# Altium integrated library Micron Memory SDRAM.IntLib: 192 symbols (part 20 of 38)
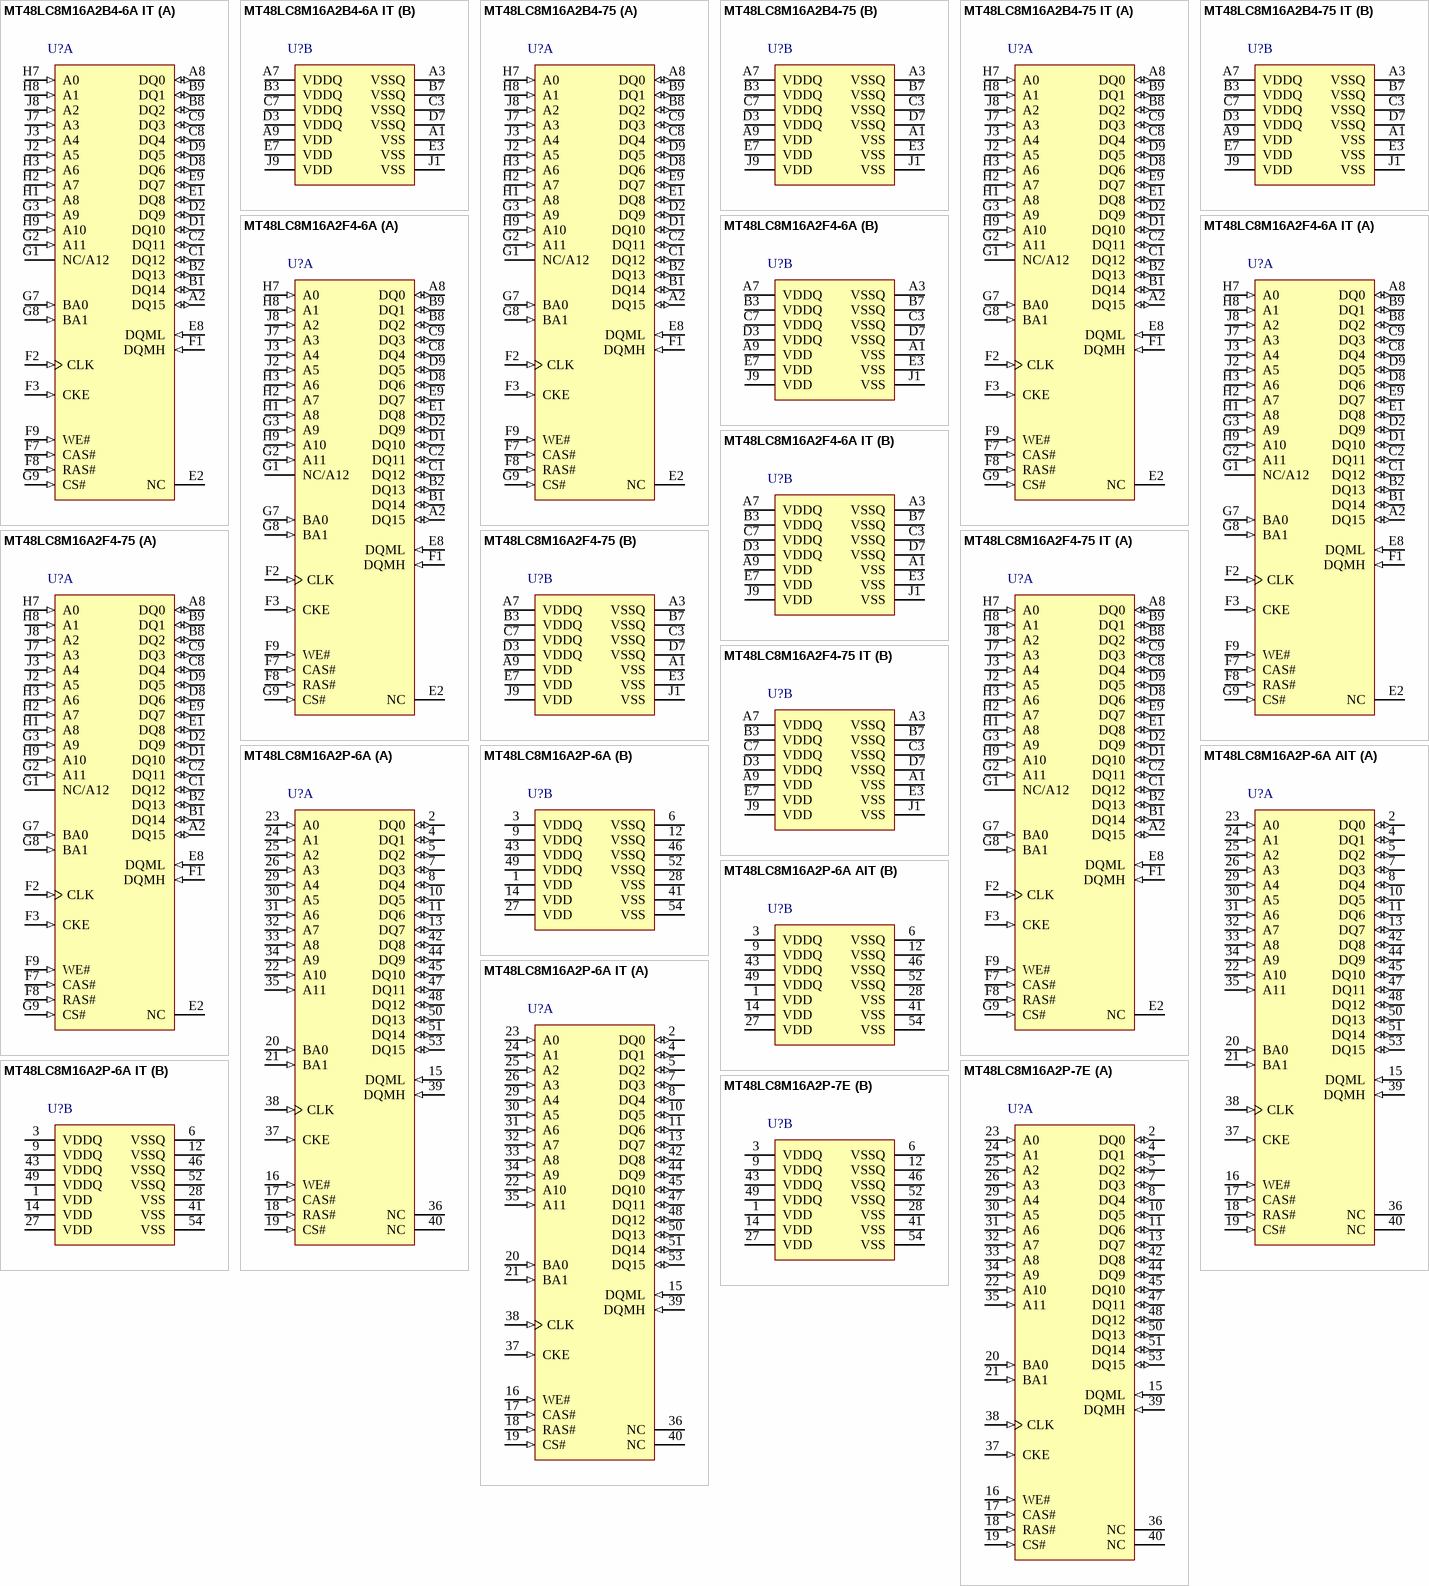
[diagram p39: symbols MT48LC8M16A2B4-6A IT to MT48LC8M16A2P-7E]

## MT48LC8M16A2P-7E
designator U?
128Mb PC133 SDR SDRAM, 8Mb x 16, 7.5ns, 3.3V, 0C to +70 degC, 54-Pin TSOP, Pb-Free; Manufacturer: Micron; PartNumber: MT48LC8M16A2P-7E; CL: CL = 2; Clock Rate: 133 MHz; Op. Temp.: 0C to +70C; DatasheetVersion: Rev.Q; PackageVersion: Rev.Q; PackageReference: MICT-P-54; PackageDescription: 54-Pin Thin Small Outline Package, 10.16 x 22.22 mm, Pitch 0.8 mm; Cycle Time: 7.5ns; Data Rate: PC133; Density: 128Mb; Depth: 8Mb; RoHS: Yes; Voltage: 3.3V; Width: x16; Mounting Technology: Surface Mount; ComponentLink1Description: Manufacturer URL; ComponentLink1URL: http://www.micron.com/; ComponentLink2Description: Datasheet; ComponentLink2URL: http://www.micron.com/~/media/Documents/Products/Data%20Sheet/DRAM/128mb_x4x8x16_sdram.pdf; ComponentLink3Description: Package Specification; ComponentLink3URL: http://www.micron.com/~/media/Documents/Products/Data%20Sheet/DRAM/128mb_x4x8x16_sdram.pdf
footprint MICT-P-54_N (SOP, 54-Leads, Body 22.22x10.16mm, Pitch 0.8mm, IPC Medium Density)
part A pins: 2 DQ0 (io) "Data bus for x16 (pins 4, 7, 10, 13, 42, 45, 48, and 51 are NC for x8; andpins 2, 4, 7, 8, 10, 13, 42, 45, 47, 48, 51, and 53 are NC for x4)", 4 DQ1 (io) "Data bus for x16 (pins 4, 7, 10, 13, 42, 45, 48, and 51 are NC for x8; andpins 2, 4, 7, 8, 10, 13, 42, 45, 47, 48, 51, and 53 are NC for x4)", 5 DQ2 (io) "Data bus for x16 (pins 4, 7, 10, 13, 42, 45, 48, and 51 are NC for x8; andpins 2, 4, 7, 8, 10, 13, 42, 45, 47, 48, 51, and 53 are NC for x4)", 7 DQ3 (io) "Data bus for x16 (pins 4, 7, 10, 13, 42, 45, 48, and 51 are NC for x8; andpins 2, 4, 7, 8, 10, 13, 42, 45, 47, 48, 51, and 53 are NC for x4)", 8 DQ4 (io) "Data bus for x16 (pins 4, 7, 10, 13, 42, 45, 48, and 51 are NC for x8; andpins 2, 4, 7, 8, 10, 13, 42, 45, 47, 48, 51, and 53 are NC for x4)", 10 DQ5 (io) "Data bus for x16 (pins 4, 7, 10, 13, 42, 45, 48, and 51 are NC for x8; andpins 2, 4, 7, 8, 10, 13, 42, 45, 47, 48, 51, and 53 are NC for x4)", 11 DQ6 (io) "Data bus for x16 (pins 4, 7, 10, 13, 42, 45, 48, and 51 are NC for x8; andpins 2, 4, 7, 8, 10, 13, 42, 45, 47, 48, 51, and 53 are NC for x4)", 13 DQ7 (io) "Data bus for x16 (pins 4, 7, 10, 13, 42, 45, 48, and 51 are NC for x8; andpins 2, 4, 7, 8, 10, 13, 42, 45, 47, 48, 51, and 53 are NC for x4)", 15 DQML (in) "DQML corresponds to DQ[7:0] and DQMH corresponds to DQ[15:8]. DQML and DQMH are considered same-state when referenced as DQM.", 16 WE# (in) "define the command being entered.", 17 CAS# (in) "define the command being entered.", 18 RAS# (in) "define the command being entered.", 19 CS# (in) "CS# enables (registered LOW) and disables (registered HIGH) the command decoder. All commands are masked when CS# is registered HIGH, but READ/WRITE bursts alreadyin progress will continue, and DQM operation will retain its (See Datasheet)", 20 BA0 (in) "define to which bank the ACTIVE, READ,WRITE,orPRECHARGE command is being applied.", 21 BA1 (in) "define to which bank the ACTIVE, READ,WRITE,orPRECHARGE command is being applied.", 22 A10 (in) "A[11:0] are sampled during the ACTIVE command (row address A[11:0]) andREAD or WRITE command (column address A[9:0] and A11 for x4; A[9:0] for x8; A[8:0] for x16;with A10 defining auto precharge) to select one location out (See Datasheet)", 23 A0 (in) "A[11:0] are sampled during the ACTIVE command (row address A[11:0]) andREAD or WRITE command (column address A[9:0] and A11 for x4; A[9:0] for x8; A[8:0] for x16;with A10 defining auto precharge) to select one location out (See Datasheet)", 24 A1 (in) "A[11:0] are sampled during the ACTIVE command (row address A[11:0]) andREAD or WRITE command (column address A[9:0] and A11 for x4; A[9:0] for x8; A[8:0] for x16;with A10 defining auto precharge) to select one location out (See Datasheet)", 25 A2 (in) "A[11:0] are sampled during the ACTIVE command (row address A[11:0]) andREAD or WRITE command (column address A[9:0] and A11 for x4; A[9:0] for x8; A[8:0] for x16;with A10 defining auto precharge) to select one location out (See Datasheet)", 26 A3 (in) "A[11:0] are sampled during the ACTIVE command (row address A[11:0]) andREAD or WRITE command (column address A[9:0] and A11 for x4; A[9:0] for x8; A[8:0] for x16;with A10 defining auto precharge) to select one location out (See Datasheet)", 29 A4 (in) "A[11:0] are sampled during the ACTIVE command (row address A[11:0]) andREAD or WRITE command (column address A[9:0] and A11 for x4; A[9:0] for x8; A[8:0] for x16;with A10 defining auto precharge) to select one location out (See Datasheet)", 30 A5 (in) "A[11:0] are sampled during the ACTIVE command (row address A[11:0]) andREAD or WRITE command (column address A[9:0] and A11 for x4; A[9:0] for x8; A[8:0] for x16;with A10 defining auto precharge) to select one location out (See Datasheet)", 31 A6 (in) "A[11:0] are sampled during the ACTIVE command (row address A[11:0]) andREAD or WRITE command (column address A[9:0] and A11 for x4; A[9:0] for x8; A[8:0] for x16;with A10 defining auto precharge) to select one location out (See Datasheet)", 32 A7 (in) "A[11:0] are sampled during the ACTIVE command (row address A[11:0]) andREAD or WRITE command (column address A[9:0] and A11 for x4; A[9:0] for x8; A[8:0] for x16;with A10 defining auto precharge) to select one location out (See Datasheet)", 33 A8 (in) "A[11:0] are sampled during the ACTIVE command (row address A[11:0]) andREAD or WRITE command (column address A[9:0] and A11 for x4; A[9:0] for x8; A[8:0] for x16;with A10 defining auto precharge) to select one location out (See Datasheet)", 34 A9 (in) "A[11:0] are sampled during the ACTIVE command (row address A[11:0]) andREAD or WRITE command (column address A[9:0] and A11 for x4; A[9:0] for x8; A[8:0] for x16;with A10 defining auto precharge) to select one location out (See Datasheet)", 35 A11 (in) "A[11:0] are sampled during the ACTIVE command (row address A[11:0]) andREAD or WRITE command (column address A[9:0] and A11 for x4; A[9:0] for x8; A[8:0] for x16;with A10 defining auto precharge) to select one location out (See Datasheet)", 36 NC "These should be left unconnected. For x4 and x8 parts, G1 is a no connect; it is A12 for 256Mb and 512Mb devices", 37 CKE (in) "CKE activates (HIGH) and deactivates (LOW) the CLK signal. Deactivating theclock provides precharge power-down and SELF REFRESH operation (all banks idle), activepower-down (row active in any bank), or CLOCK SUSPEND (See Datasheet)", 38 CLK (in) "CLK is driven by the system clock. All SDRAM input signals are sampled on the positive edge of CLK. CLK also increments the internal burst counter and controls the output registers.", 39 DQMH (in) "DQML corresponds to DQ[7:0] and DQMH corresponds to DQ[15:8]. DQML and DQMH are considered same-state when referenced as DQM.", 40 NC "These should be left unconnected. For x4 and x8 parts, G1 is a no connect; it is A12 for 256Mb and 512Mb devices.", 42 DQ8 (io) "Data bus for x16 (pins 4, 7, 10, 13, 42, 45, 48, and 51 are NC for x8; andpins 2, 4, 7, 8, 10, 13, 42, 45, 47, 48, 51, and 53 are NC for x4)", 44 DQ9 (io) "Data bus for x16 (pins 4, 7, 10, 13, 42, 45, 48, and 51 are NC for x8; andpins 2, 4, 7, 8, 10, 13, 42, 45, 47, 48, 51, and 53 are NC for x4)", 45 DQ10 (io) "Data bus for x16 (pins 4, 7, 10, 13, 42, 45, 48, and 51 are NC for x8; andpins 2, 4, 7, 8, 10, 13, 42, 45, 47, 48, 51, and 53 are NC for x4)", 47 DQ11 (io) "Data bus for x16 (pins 4, 7, 10, 13, 42, 45, 48, and 51 are NC for x8; andpins 2, 4, 7, 8, 10, 13, 42, 45, 47, 48, 51, and 53 are NC for x4)", 48 DQ12 (io) "Data bus for x16 (pins 4, 7, 10, 13, 42, 45, 48, and 51 are NC for x8; andpins 2, 4, 7, 8, 10, 13, 42, 45, 47, 48, 51, and 53 are NC for x4)", 50 DQ13 (io) "Data bus for x16 (pins 4, 7, 10, 13, 42, 45, 48, and 51 are NC for x8; andpins 2, 4, 7, 8, 10, 13, 42, 45, 47, 48, 51, and 53 are NC for x4)", 51 DQ14 (io) "Data bus for x16 (pins 4, 7, 10, 13, 42, 45, 48, and 51 are NC for x8; andpins 2, 4, 7, 8, 10, 13, 42, 45, 47, 48, 51, and 53 are NC for x4)", 53 DQ15 (io) "Data bus for x16 (pins 4, 7, 10, 13, 42, 45, 48, and 51 are NC for x8; andpins 2, 4, 7, 8, 10, 13, 42, 45, 47, 48, 51, and 53 are NC for x4)"
part B pins: 1 VDD (power) "3.3V +/-0.3V", 3 VDDQ (power) "Isolated DQ power to the die for improved noise immunity", 6 VSSQ (power) "Isolated DQ ground to the die for improved noise immunity", 9 VDDQ (power) "Isolated DQ power to the die for improved noise immunity", 12 VSSQ (power) "Isolated DQ ground to the die for improved noise immunity", 14 VDD (power) "3.3V +/-0.3V", 27 VDD (power) "3.3V +/-0.3V.", 28 VSS (power) "Ground.", 41 VSS (power) "Ground.", 43 VDDQ (power) "Isolated DQ power to the die for improved noise immunity", 46 VSSQ (power) "Isolated DQ ground to the die for improved noise immunity", 49 VDDQ (power) "Isolated DQ power to the die for improved noise immunity", 52 VSSQ (power) "Isolated DQ ground to the die for improved noise immunity", 54 VSS (power) "Ground."

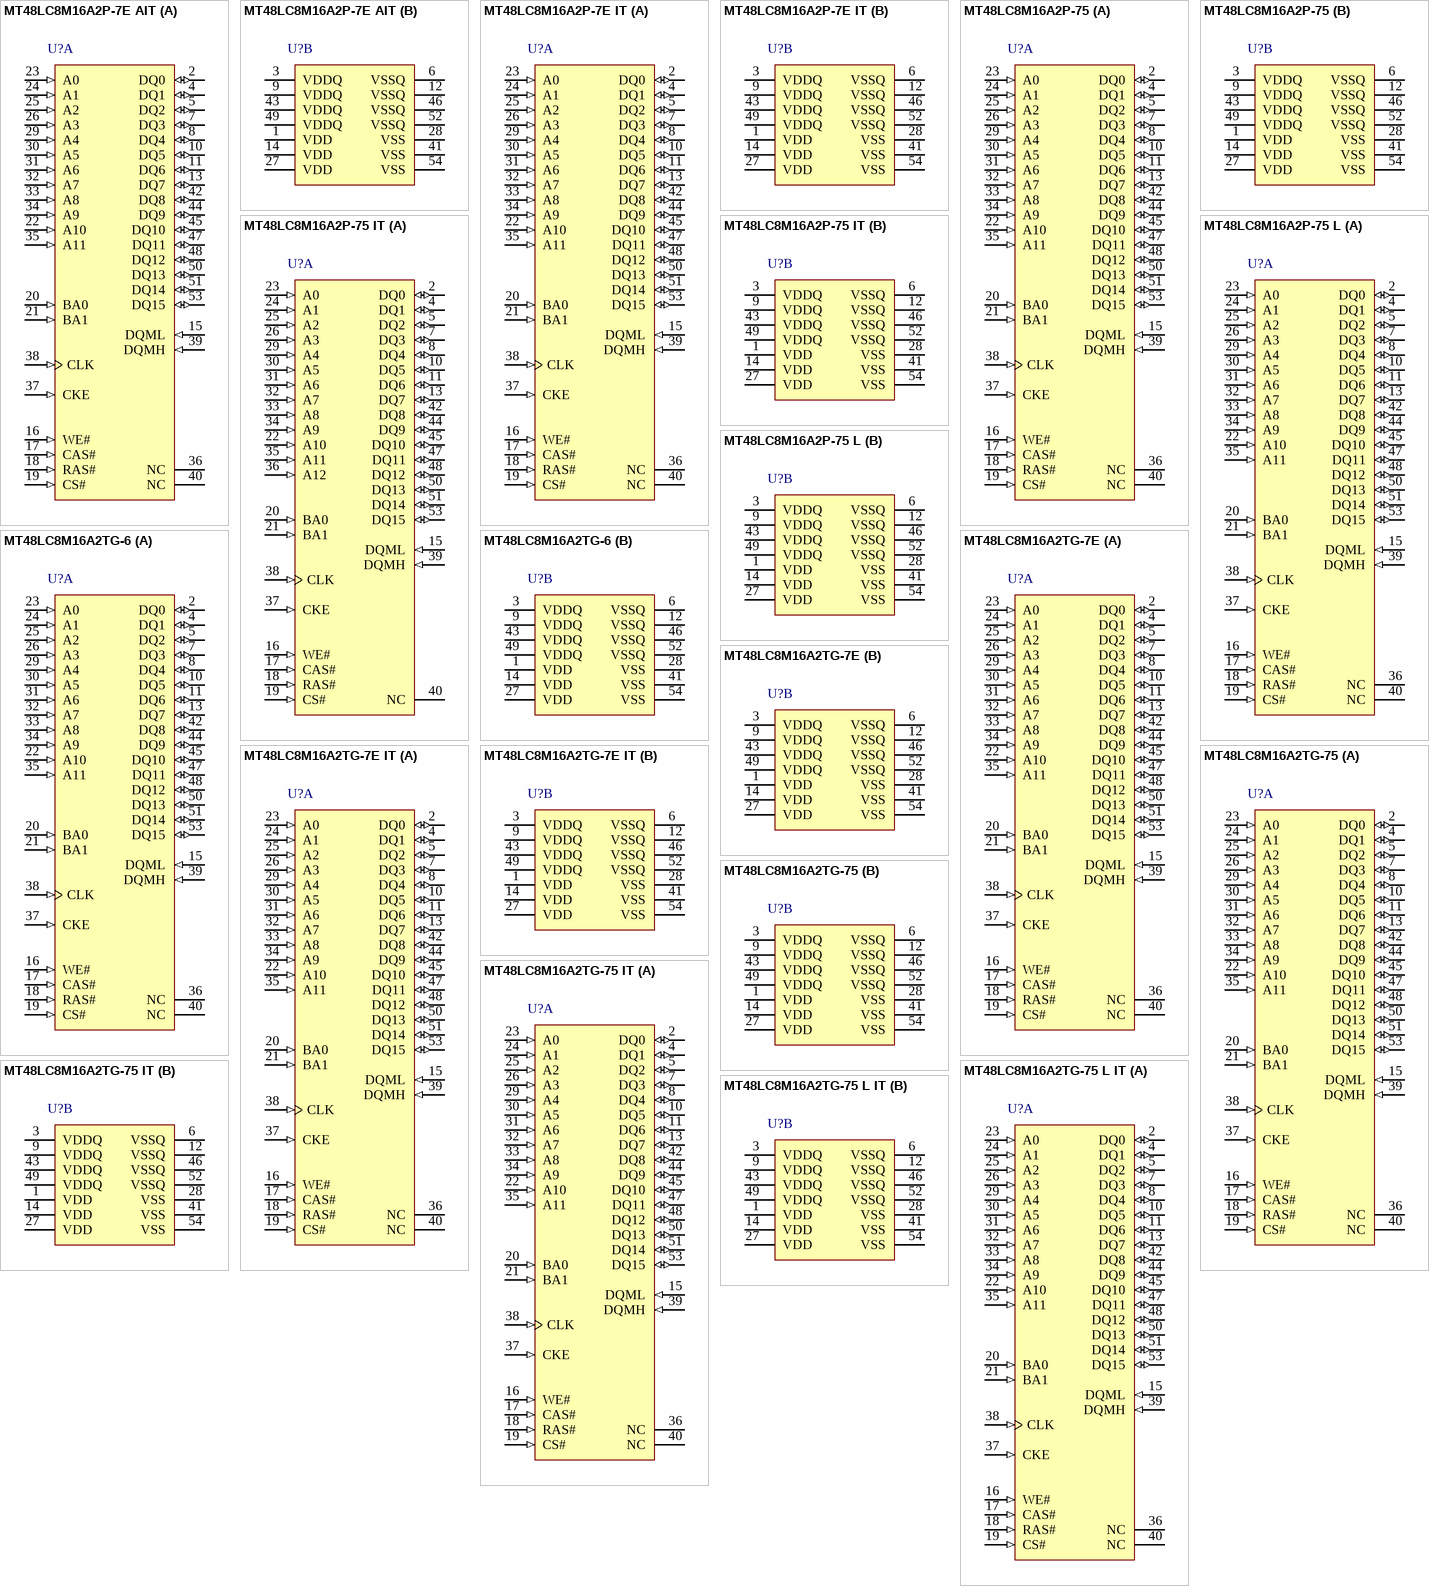
[diagram p11: symbols MT48LC8M16A2P-7E AIT to MT48LC8M16A2TG-75 L IT]

## MT48LC8M16A2P-7E AIT
designator U?
128Mb PC133 SDR SDRAM, 8Mb x 16, 7.5ns, 3.3V, -40 to 85 degC, 54-Pin TSOP, Pb-Free; Manufacturer: Micron; PartNumber: MT48LC8M16A2P-7E AIT; CL: CL = 2; Clock Rate: 143 MHz; Op. Temp.: -40C to +85C; DatasheetVersion: Rev.A; PackageVersion: Rev.Q; PackageReference: MICT-P-54; PackageDescription: 54-Pin Thin Small Outline Package, 10.16 x 22.22 mm, Pitch 0.8 mm; Cycle Time: 7.5ns; Data Rate: PC133; Density: 128Mb; Depth: 8Mb; RoHS: Yes; Voltage: 3.3V; Width: x16; Mounting Technology: Surface Mount; ComponentLink1Description: Manufacturer URL; ComponentLink1URL: http://www.micron.com/; ComponentLink2Description: Datasheet; ComponentLink2URL: http://www.micron.com/~/media/Documents/Products/Data%20Sheet/DRAM/128mb_x4x8x16_ait-aat_sdram.pdf; ComponentLink3Description: Package Specification; ComponentLink3URL: http://www.micron.com/~/media/Documents/Products/Data%20Sheet/DRAM/128mb_x4x8x16_sdram.pdf
footprint MICT-P-54_N (SOP, 54-Leads, Body 22.22x10.16mm, Pitch 0.8mm, IPC Medium Density)
part A pins: 2 DQ0 (io) "Data bus for x16 (pins 4, 7, 10, 13, 42, 45, 48, and 51 are NC for x8; andpins 2, 4, 7, 8, 10, 13, 42, 45, 47, 48, 51, and 53 are NC for x4)", 4 DQ1 (io) "Data bus for x16 (pins 4, 7, 10, 13, 42, 45, 48, and 51 are NC for x8; andpins 2, 4, 7, 8, 10, 13, 42, 45, 47, 48, 51, and 53 are NC for x4)", 5 DQ2 (io) "Data bus for x16 (pins 4, 7, 10, 13, 42, 45, 48, and 51 are NC for x8; andpins 2, 4, 7, 8, 10, 13, 42, 45, 47, 48, 51, and 53 are NC for x4)", 7 DQ3 (io) "Data bus for x16 (pins 4, 7, 10, 13, 42, 45, 48, and 51 are NC for x8; andpins 2, 4, 7, 8, 10, 13, 42, 45, 47, 48, 51, and 53 are NC for x4)", 8 DQ4 (io) "Data bus for x16 (pins 4, 7, 10, 13, 42, 45, 48, and 51 are NC for x8; andpins 2, 4, 7, 8, 10, 13, 42, 45, 47, 48, 51, and 53 are NC for x4)", 10 DQ5 (io) "Data bus for x16 (pins 4, 7, 10, 13, 42, 45, 48, and 51 are NC for x8; andpins 2, 4, 7, 8, 10, 13, 42, 45, 47, 48, 51, and 53 are NC for x4)", 11 DQ6 (io) "Data bus for x16 (pins 4, 7, 10, 13, 42, 45, 48, and 51 are NC for x8; andpins 2, 4, 7, 8, 10, 13, 42, 45, 47, 48, 51, and 53 are NC for x4)", 13 DQ7 (io) "Data bus for x16 (pins 4, 7, 10, 13, 42, 45, 48, and 51 are NC for x8; andpins 2, 4, 7, 8, 10, 13, 42, 45, 47, 48, 51, and 53 are NC for x4)", 15 DQML (in) "DQML corresponds to DQ[7:0] and DQMH corresponds to DQ[15:8]. DQML and DQMH are considered same-state when referenced as DQM.", 16 WE# (in) "define the command being entered.", 17 CAS# (in) "define the command being entered.", 18 RAS# (in) "define the command being entered.", 19 CS# (in) "CS# enables (registered LOW) and disables (registered HIGH) the command decoder. All commands are masked when CS# is registered HIGH, but READ/WRITE bursts alreadyin progress will continue, and DQM operation will retain its (See Datasheet)", 20 BA0 (in) "define to which bank the ACTIVE, READ,WRITE,orPRECHARGE command is being applied.", 21 BA1 (in) "define to which bank the ACTIVE, READ,WRITE,orPRECHARGE command is being applied.", 22 A10 (in) "A[11:0] are sampled during the ACTIVE command (row address A[11:0]) andREAD or WRITE command (column address A[9:0] and A11 for x4; A[9:0] for x8; A[8:0] for x16;with A10 defining auto precharge) to select one location out (See Datasheet)", 23 A0 (in) "A[11:0] are sampled during the ACTIVE command (row address A[11:0]) andREAD or WRITE command (column address A[9:0] and A11 for x4; A[9:0] for x8; A[8:0] for x16;with A10 defining auto precharge) to select one location out (See Datasheet)", 24 A1 (in) "A[11:0] are sampled during the ACTIVE command (row address A[11:0]) andREAD or WRITE command (column address A[9:0] and A11 for x4; A[9:0] for x8; A[8:0] for x16;with A10 defining auto precharge) to select one location out (See Datasheet)", 25 A2 (in) "A[11:0] are sampled during the ACTIVE command (row address A[11:0]) andREAD or WRITE command (column address A[9:0] and A11 for x4; A[9:0] for x8; A[8:0] for x16;with A10 defining auto precharge) to select one location out (See Datasheet)", 26 A3 (in) "A[11:0] are sampled during the ACTIVE command (row address A[11:0]) andREAD or WRITE command (column address A[9:0] and A11 for x4; A[9:0] for x8; A[8:0] for x16;with A10 defining auto precharge) to select one location out (See Datasheet)", 29 A4 (in) "A[11:0] are sampled during the ACTIVE command (row address A[11:0]) andREAD or WRITE command (column address A[9:0] and A11 for x4; A[9:0] for x8; A[8:0] for x16;with A10 defining auto precharge) to select one location out (See Datasheet)", 30 A5 (in) "A[11:0] are sampled during the ACTIVE command (row address A[11:0]) andREAD or WRITE command (column address A[9:0] and A11 for x4; A[9:0] for x8; A[8:0] for x16;with A10 defining auto precharge) to select one location out (See Datasheet)", 31 A6 (in) "A[11:0] are sampled during the ACTIVE command (row address A[11:0]) andREAD or WRITE command (column address A[9:0] and A11 for x4; A[9:0] for x8; A[8:0] for x16;with A10 defining auto precharge) to select one location out (See Datasheet)", 32 A7 (in) "A[11:0] are sampled during the ACTIVE command (row address A[11:0]) andREAD or WRITE command (column address A[9:0] and A11 for x4; A[9:0] for x8; A[8:0] for x16;with A10 defining auto precharge) to select one location out (See Datasheet)", 33 A8 (in) "A[11:0] are sampled during the ACTIVE command (row address A[11:0]) andREAD or WRITE command (column address A[9:0] and A11 for x4; A[9:0] for x8; A[8:0] for x16;with A10 defining auto precharge) to select one location out (See Datasheet)", 34 A9 (in) "A[11:0] are sampled during the ACTIVE command (row address A[11:0]) andREAD or WRITE command (column address A[9:0] and A11 for x4; A[9:0] for x8; A[8:0] for x16;with A10 defining auto precharge) to select one location out (See Datasheet)", 35 A11 (in) "A[11:0] are sampled during the ACTIVE command (row address A[11:0]) andREAD or WRITE command (column address A[9:0] and A11 for x4; A[9:0] for x8; A[8:0] for x16;with A10 defining auto precharge) to select one location out (See Datasheet)", 36 NC "These should be left unconnected. For x4 and x8 parts, G1 is a no connect; it is A12 for 256Mb and 512Mb devices", 37 CKE (in) "CKE activates (HIGH) and deactivates (LOW) the CLK signal. Deactivating theclock provides precharge power-down and SELF REFRESH operation (all banks idle), activepower-down (row active in any bank), or CLOCK SUSPEND (See Datasheet)", 38 CLK (in) "CLK is driven by the system clock. All SDRAM input signals are sampled on the positive edge of CLK. CLK also increments the internal burst counter and controls the output registers.", 39 DQMH (in) "DQML corresponds to DQ[7:0] and DQMH corresponds to DQ[15:8]. DQML and DQMH are considered same-state when referenced as DQM.", 40 NC "These should be left unconnected. For x4 and x8 parts, G1 is a no connect; it is A12 for 256Mb and 512Mb devices.", 42 DQ8 (io) "Data bus for x16 (pins 4, 7, 10, 13, 42, 45, 48, and 51 are NC for x8; andpins 2, 4, 7, 8, 10, 13, 42, 45, 47, 48, 51, and 53 are NC for x4)", 44 DQ9 (io) "Data bus for x16 (pins 4, 7, 10, 13, 42, 45, 48, and 51 are NC for x8; andpins 2, 4, 7, 8, 10, 13, 42, 45, 47, 48, 51, and 53 are NC for x4)", 45 DQ10 (io) "Data bus for x16 (pins 4, 7, 10, 13, 42, 45, 48, and 51 are NC for x8; andpins 2, 4, 7, 8, 10, 13, 42, 45, 47, 48, 51, and 53 are NC for x4)", 47 DQ11 (io) "Data bus for x16 (pins 4, 7, 10, 13, 42, 45, 48, and 51 are NC for x8; andpins 2, 4, 7, 8, 10, 13, 42, 45, 47, 48, 51, and 53 are NC for x4)", 48 DQ12 (io) "Data bus for x16 (pins 4, 7, 10, 13, 42, 45, 48, and 51 are NC for x8; andpins 2, 4, 7, 8, 10, 13, 42, 45, 47, 48, 51, and 53 are NC for x4)", 50 DQ13 (io) "Data bus for x16 (pins 4, 7, 10, 13, 42, 45, 48, and 51 are NC for x8; andpins 2, 4, 7, 8, 10, 13, 42, 45, 47, 48, 51, and 53 are NC for x4)", 51 DQ14 (io) "Data bus for x16 (pins 4, 7, 10, 13, 42, 45, 48, and 51 are NC for x8; andpins 2, 4, 7, 8, 10, 13, 42, 45, 47, 48, 51, and 53 are NC for x4)", 53 DQ15 (io) "Data bus for x16 (pins 4, 7, 10, 13, 42, 45, 48, and 51 are NC for x8; andpins 2, 4, 7, 8, 10, 13, 42, 45, 47, 48, 51, and 53 are NC for x4)"
part B pins: 1 VDD (power) "3.3V +/-0.3V", 3 VDDQ (power) "Isolated DQ power to the die for improved noise immunity", 6 VSSQ (power) "Isolated DQ ground to the die for improved noise immunity", 9 VDDQ (power) "Isolated DQ power to the die for improved noise immunity", 12 VSSQ (power) "Isolated DQ ground to the die for improved noise immunity", 14 VDD (power) "3.3V +/-0.3V", 27 VDD (power) "3.3V +/-0.3V.", 28 VSS (power) "Ground.", 41 VSS (power) "Ground.", 43 VDDQ (power) "Isolated DQ power to the die for improved noise immunity", 46 VSSQ (power) "Isolated DQ ground to the die for improved noise immunity", 49 VDDQ (power) "Isolated DQ power to the die for improved noise immunity", 52 VSSQ (power) "Isolated DQ ground to the die for improved noise immunity", 54 VSS (power) "Ground."

## MT48LC8M16A2P-7E IT
designator U?
128Mb PC133 SDR SDRAM, 8Mb x 16, 7.5ns, 3.3V, -40 to 85 degC, 54-Pin TSOP, Pb-Free; Manufacturer: Micron; PartNumber: MT48LC8M16A2P-7E IT; CL: CL = 2; Clock Rate: 133 MHz; Op. Temp.: -40C to +85C; DatasheetVersion: Rev.Q; PackageVersion: Rev.Q; PackageReference: MICT-P-54; PackageDescription: 54-Pin Thin Small Outline Package, 10.16 x 22.22 mm, Pitch 0.8 mm; Cycle Time: 7.5ns; Data Rate: PC133; Density: 128Mb; Depth: 8Mb; RoHS: Yes; Voltage: 3.3V; Width: x16; Mounting Technology: Surface Mount; ComponentLink1Description: Manufacturer URL; ComponentLink1URL: http://www.micron.com/; ComponentLink2Description: Datasheet; ComponentLink2URL: http://www.micron.com/~/media/Documents/Products/Data%20Sheet/DRAM/128mb_x4x8x16_sdram.pdf; ComponentLink3Description: Package Specification; ComponentLink3URL: http://www.micron.com/~/media/Documents/Products/Data%20Sheet/DRAM/128mb_x4x8x16_sdram.pdf
footprint MICT-P-54_N (SOP, 54-Leads, Body 22.22x10.16mm, Pitch 0.8mm, IPC Medium Density)
part A pins: 2 DQ0 (io) "Data bus for x16 (pins 4, 7, 10, 13, 42, 45, 48, and 51 are NC for x8; andpins 2, 4, 7, 8, 10, 13, 42, 45, 47, 48, 51, and 53 are NC for x4)", 4 DQ1 (io) "Data bus for x16 (pins 4, 7, 10, 13, 42, 45, 48, and 51 are NC for x8; andpins 2, 4, 7, 8, 10, 13, 42, 45, 47, 48, 51, and 53 are NC for x4)", 5 DQ2 (io) "Data bus for x16 (pins 4, 7, 10, 13, 42, 45, 48, and 51 are NC for x8; andpins 2, 4, 7, 8, 10, 13, 42, 45, 47, 48, 51, and 53 are NC for x4)", 7 DQ3 (io) "Data bus for x16 (pins 4, 7, 10, 13, 42, 45, 48, and 51 are NC for x8; andpins 2, 4, 7, 8, 10, 13, 42, 45, 47, 48, 51, and 53 are NC for x4)", 8 DQ4 (io) "Data bus for x16 (pins 4, 7, 10, 13, 42, 45, 48, and 51 are NC for x8; andpins 2, 4, 7, 8, 10, 13, 42, 45, 47, 48, 51, and 53 are NC for x4)", 10 DQ5 (io) "Data bus for x16 (pins 4, 7, 10, 13, 42, 45, 48, and 51 are NC for x8; andpins 2, 4, 7, 8, 10, 13, 42, 45, 47, 48, 51, and 53 are NC for x4)", 11 DQ6 (io) "Data bus for x16 (pins 4, 7, 10, 13, 42, 45, 48, and 51 are NC for x8; andpins 2, 4, 7, 8, 10, 13, 42, 45, 47, 48, 51, and 53 are NC for x4)", 13 DQ7 (io) "Data bus for x16 (pins 4, 7, 10, 13, 42, 45, 48, and 51 are NC for x8; andpins 2, 4, 7, 8, 10, 13, 42, 45, 47, 48, 51, and 53 are NC for x4)", 15 DQML (in) "DQML corresponds to DQ[7:0] and DQMH corresponds to DQ[15:8]. DQML and DQMH are considered same-state when referenced as DQM.", 16 WE# (in) "define the command being entered.", 17 CAS# (in) "define the command being entered.", 18 RAS# (in) "define the command being entered.", 19 CS# (in) "CS# enables (registered LOW) and disables (registered HIGH) the command decoder. All commands are masked when CS# is registered HIGH, but READ/WRITE bursts alreadyin progress will continue, and DQM operation will retain its (See Datasheet)", 20 BA0 (in) "define to which bank the ACTIVE, READ,WRITE,orPRECHARGE command is being applied.", 21 BA1 (in) "define to which bank the ACTIVE, READ,WRITE,orPRECHARGE command is being applied.", 22 A10 (in) "A[11:0] are sampled during the ACTIVE command (row address A[11:0]) andREAD or WRITE command (column address A[9:0] and A11 for x4; A[9:0] for x8; A[8:0] for x16;with A10 defining auto precharge) to select one location out (See Datasheet)", 23 A0 (in) "A[11:0] are sampled during the ACTIVE command (row address A[11:0]) andREAD or WRITE command (column address A[9:0] and A11 for x4; A[9:0] for x8; A[8:0] for x16;with A10 defining auto precharge) to select one location out (See Datasheet)", 24 A1 (in) "A[11:0] are sampled during the ACTIVE command (row address A[11:0]) andREAD or WRITE command (column address A[9:0] and A11 for x4; A[9:0] for x8; A[8:0] for x16;with A10 defining auto precharge) to select one location out (See Datasheet)", 25 A2 (in) "A[11:0] are sampled during the ACTIVE command (row address A[11:0]) andREAD or WRITE command (column address A[9:0] and A11 for x4; A[9:0] for x8; A[8:0] for x16;with A10 defining auto precharge) to select one location out (See Datasheet)", 26 A3 (in) "A[11:0] are sampled during the ACTIVE command (row address A[11:0]) andREAD or WRITE command (column address A[9:0] and A11 for x4; A[9:0] for x8; A[8:0] for x16;with A10 defining auto precharge) to select one location out (See Datasheet)", 29 A4 (in) "A[11:0] are sampled during the ACTIVE command (row address A[11:0]) andREAD or WRITE command (column address A[9:0] and A11 for x4; A[9:0] for x8; A[8:0] for x16;with A10 defining auto precharge) to select one location out (See Datasheet)", 30 A5 (in) "A[11:0] are sampled during the ACTIVE command (row address A[11:0]) andREAD or WRITE command (column address A[9:0] and A11 for x4; A[9:0] for x8; A[8:0] for x16;with A10 defining auto precharge) to select one location out (See Datasheet)", 31 A6 (in) "A[11:0] are sampled during the ACTIVE command (row address A[11:0]) andREAD or WRITE command (column address A[9:0] and A11 for x4; A[9:0] for x8; A[8:0] for x16;with A10 defining auto precharge) to select one location out (See Datasheet)", 32 A7 (in) "A[11:0] are sampled during the ACTIVE command (row address A[11:0]) andREAD or WRITE command (column address A[9:0] and A11 for x4; A[9:0] for x8; A[8:0] for x16;with A10 defining auto precharge) to select one location out (See Datasheet)", 33 A8 (in) "A[11:0] are sampled during the ACTIVE command (row address A[11:0]) andREAD or WRITE command (column address A[9:0] and A11 for x4; A[9:0] for x8; A[8:0] for x16;with A10 defining auto precharge) to select one location out (See Datasheet)", 34 A9 (in) "A[11:0] are sampled during the ACTIVE command (row address A[11:0]) andREAD or WRITE command (column address A[9:0] and A11 for x4; A[9:0] for x8; A[8:0] for x16;with A10 defining auto precharge) to select one location out (See Datasheet)", 35 A11 (in) "A[11:0] are sampled during the ACTIVE command (row address A[11:0]) andREAD or WRITE command (column address A[9:0] and A11 for x4; A[9:0] for x8; A[8:0] for x16;with A10 defining auto precharge) to select one location out (See Datasheet)", 36 NC "These should be left unconnected. For x4 and x8 parts, G1 is a no connect; it is A12 for 256Mb and 512Mb devices", 37 CKE (in) "CKE activates (HIGH) and deactivates (LOW) the CLK signal. Deactivating theclock provides precharge power-down and SELF REFRESH operation (all banks idle), activepower-down (row active in any bank), or CLOCK SUSPEND (See Datasheet)", 38 CLK (in) "CLK is driven by the system clock. All SDRAM input signals are sampled on the positive edge of CLK. CLK also increments the internal burst counter and controls the output registers.", 39 DQMH (in) "DQML corresponds to DQ[7:0] and DQMH corresponds to DQ[15:8]. DQML and DQMH are considered same-state when referenced as DQM.", 40 NC "These should be left unconnected. For x4 and x8 parts, G1 is a no connect; it is A12 for 256Mb and 512Mb devices.", 42 DQ8 (io) "Data bus for x16 (pins 4, 7, 10, 13, 42, 45, 48, and 51 are NC for x8; andpins 2, 4, 7, 8, 10, 13, 42, 45, 47, 48, 51, and 53 are NC for x4)", 44 DQ9 (io) "Data bus for x16 (pins 4, 7, 10, 13, 42, 45, 48, and 51 are NC for x8; andpins 2, 4, 7, 8, 10, 13, 42, 45, 47, 48, 51, and 53 are NC for x4)", 45 DQ10 (io) "Data bus for x16 (pins 4, 7, 10, 13, 42, 45, 48, and 51 are NC for x8; andpins 2, 4, 7, 8, 10, 13, 42, 45, 47, 48, 51, and 53 are NC for x4)", 47 DQ11 (io) "Data bus for x16 (pins 4, 7, 10, 13, 42, 45, 48, and 51 are NC for x8; andpins 2, 4, 7, 8, 10, 13, 42, 45, 47, 48, 51, and 53 are NC for x4)", 48 DQ12 (io) "Data bus for x16 (pins 4, 7, 10, 13, 42, 45, 48, and 51 are NC for x8; andpins 2, 4, 7, 8, 10, 13, 42, 45, 47, 48, 51, and 53 are NC for x4)", 50 DQ13 (io) "Data bus for x16 (pins 4, 7, 10, 13, 42, 45, 48, and 51 are NC for x8; andpins 2, 4, 7, 8, 10, 13, 42, 45, 47, 48, 51, and 53 are NC for x4)", 51 DQ14 (io) "Data bus for x16 (pins 4, 7, 10, 13, 42, 45, 48, and 51 are NC for x8; andpins 2, 4, 7, 8, 10, 13, 42, 45, 47, 48, 51, and 53 are NC for x4)", 53 DQ15 (io) "Data bus for x16 (pins 4, 7, 10, 13, 42, 45, 48, and 51 are NC for x8; andpins 2, 4, 7, 8, 10, 13, 42, 45, 47, 48, 51, and 53 are NC for x4)"
part B pins: 1 VDD (power) "3.3V +/-0.3V", 3 VDDQ (power) "Isolated DQ power to the die for improved noise immunity", 6 VSSQ (power) "Isolated DQ ground to the die for improved noise immunity", 9 VDDQ (power) "Isolated DQ power to the die for improved noise immunity", 12 VSSQ (power) "Isolated DQ ground to the die for improved noise immunity", 14 VDD (power) "3.3V +/-0.3V", 27 VDD (power) "3.3V +/-0.3V.", 28 VSS (power) "Ground.", 41 VSS (power) "Ground.", 43 VDDQ (power) "Isolated DQ power to the die for improved noise immunity", 46 VSSQ (power) "Isolated DQ ground to the die for improved noise immunity", 49 VDDQ (power) "Isolated DQ power to the die for improved noise immunity", 52 VSSQ (power) "Isolated DQ ground to the die for improved noise immunity", 54 VSS (power) "Ground."

## MT48LC8M16A2P-75
designator U?
128Mb PC133 SDR SDRAM, 8Mb x 16, 7.5ns, 3.3V, 0 to 70 degC, 54-Pin TSOP, Pb-Free; Manufacturer: Micron; PartNumber: MT48LC8M16A2P-75; CL: CL = 3; Clock Rate: 133 MHz; Op. Temp.: 0C to +70C; DatasheetVersion: Rev.Q; PackageVersion: Rev.Q; PackageReference: MICT-P-54; PackageDescription: 54-Pin Thin Small Outline Package, 10.16 x 22.22 mm, Pitch 0.8 mm; Cycle Time: 7.5ns; Data Rate: PC133; Density: 128Mb; Depth: 8Mb; RoHS: Yes; Voltage: 3.3V; Width: x16; Mounting Technology: Surface Mount; ComponentLink1Description: Manufacturer URL; ComponentLink1URL: http://www.micron.com/; ComponentLink2Description: Datasheet; ComponentLink2URL: http://www.micron.com/~/media/Documents/Products/Data%20Sheet/DRAM/128mb_x4x8x16_sdram.pdf; ComponentLink3Description: Package Specification; ComponentLink3URL: http://www.micron.com/~/media/Documents/Products/Data%20Sheet/DRAM/128mb_x4x8x16_sdram.pdf
footprint MICT-P-54_N (SOP, 54-Leads, Body 22.22x10.16mm, Pitch 0.8mm, IPC Medium Density)
part A pins: 2 DQ0 (io) "Data bus for x16 (pins 4, 7, 10, 13, 42, 45, 48, and 51 are NC for x8; andpins 2, 4, 7, 8, 10, 13, 42, 45, 47, 48, 51, and 53 are NC for x4)", 4 DQ1 (io) "Data bus for x16 (pins 4, 7, 10, 13, 42, 45, 48, and 51 are NC for x8; andpins 2, 4, 7, 8, 10, 13, 42, 45, 47, 48, 51, and 53 are NC for x4)", 5 DQ2 (io) "Data bus for x16 (pins 4, 7, 10, 13, 42, 45, 48, and 51 are NC for x8; andpins 2, 4, 7, 8, 10, 13, 42, 45, 47, 48, 51, and 53 are NC for x4)", 7 DQ3 (io) "Data bus for x16 (pins 4, 7, 10, 13, 42, 45, 48, and 51 are NC for x8; andpins 2, 4, 7, 8, 10, 13, 42, 45, 47, 48, 51, and 53 are NC for x4)", 8 DQ4 (io) "Data bus for x16 (pins 4, 7, 10, 13, 42, 45, 48, and 51 are NC for x8; andpins 2, 4, 7, 8, 10, 13, 42, 45, 47, 48, 51, and 53 are NC for x4)", 10 DQ5 (io) "Data bus for x16 (pins 4, 7, 10, 13, 42, 45, 48, and 51 are NC for x8; andpins 2, 4, 7, 8, 10, 13, 42, 45, 47, 48, 51, and 53 are NC for x4)", 11 DQ6 (io) "Data bus for x16 (pins 4, 7, 10, 13, 42, 45, 48, and 51 are NC for x8; andpins 2, 4, 7, 8, 10, 13, 42, 45, 47, 48, 51, and 53 are NC for x4)", 13 DQ7 (io) "Data bus for x16 (pins 4, 7, 10, 13, 42, 45, 48, and 51 are NC for x8; andpins 2, 4, 7, 8, 10, 13, 42, 45, 47, 48, 51, and 53 are NC for x4)", 15 DQML (in) "DQML corresponds to DQ[7:0] and DQMH corresponds to DQ[15:8]. DQML and DQMH are considered same-state when referenced as DQM.", 16 WE# (in) "define the command being entered.", 17 CAS# (in) "define the command being entered.", 18 RAS# (in) "define the command being entered.", 19 CS# (in) "CS# enables (registered LOW) and disables (registered HIGH) the command decoder. All commands are masked when CS# is registered HIGH, but READ/WRITE bursts alreadyin progress will continue, and DQM operation will retain its (See Datasheet)", 20 BA0 (in) "define to which bank the ACTIVE, READ,WRITE,orPRECHARGE command is being applied.", 21 BA1 (in) "define to which bank the ACTIVE, READ,WRITE,orPRECHARGE command is being applied.", 22 A10 (in) "A[11:0] are sampled during the ACTIVE command (row address A[11:0]) andREAD or WRITE command (column address A[9:0] and A11 for x4; A[9:0] for x8; A[8:0] for x16;with A10 defining auto precharge) to select one location out (See Datasheet)", 23 A0 (in) "A[11:0] are sampled during the ACTIVE command (row address A[11:0]) andREAD or WRITE command (column address A[9:0] and A11 for x4; A[9:0] for x8; A[8:0] for x16;with A10 defining auto precharge) to select one location out (See Datasheet)", 24 A1 (in) "A[11:0] are sampled during the ACTIVE command (row address A[11:0]) andREAD or WRITE command (column address A[9:0] and A11 for x4; A[9:0] for x8; A[8:0] for x16;with A10 defining auto precharge) to select one location out (See Datasheet)", 25 A2 (in) "A[11:0] are sampled during the ACTIVE command (row address A[11:0]) andREAD or WRITE command (column address A[9:0] and A11 for x4; A[9:0] for x8; A[8:0] for x16;with A10 defining auto precharge) to select one location out (See Datasheet)", 26 A3 (in) "A[11:0] are sampled during the ACTIVE command (row address A[11:0]) andREAD or WRITE command (column address A[9:0] and A11 for x4; A[9:0] for x8; A[8:0] for x16;with A10 defining auto precharge) to select one location out (See Datasheet)", 29 A4 (in) "A[11:0] are sampled during the ACTIVE command (row address A[11:0]) andREAD or WRITE command (column address A[9:0] and A11 for x4; A[9:0] for x8; A[8:0] for x16;with A10 defining auto precharge) to select one location out (See Datasheet)", 30 A5 (in) "A[11:0] are sampled during the ACTIVE command (row address A[11:0]) andREAD or WRITE command (column address A[9:0] and A11 for x4; A[9:0] for x8; A[8:0] for x16;with A10 defining auto precharge) to select one location out (See Datasheet)", 31 A6 (in) "A[11:0] are sampled during the ACTIVE command (row address A[11:0]) andREAD or WRITE command (column address A[9:0] and A11 for x4; A[9:0] for x8; A[8:0] for x16;with A10 defining auto precharge) to select one location out (See Datasheet)", 32 A7 (in) "A[11:0] are sampled during the ACTIVE command (row address A[11:0]) andREAD or WRITE command (column address A[9:0] and A11 for x4; A[9:0] for x8; A[8:0] for x16;with A10 defining auto precharge) to select one location out (See Datasheet)", 33 A8 (in) "A[11:0] are sampled during the ACTIVE command (row address A[11:0]) andREAD or WRITE command (column address A[9:0] and A11 for x4; A[9:0] for x8; A[8:0] for x16;with A10 defining auto precharge) to select one location out (See Datasheet)", 34 A9 (in) "A[11:0] are sampled during the ACTIVE command (row address A[11:0]) andREAD or WRITE command (column address A[9:0] and A11 for x4; A[9:0] for x8; A[8:0] for x16;with A10 defining auto precharge) to select one location out (See Datasheet)", 35 A11 (in) "A[11:0] are sampled during the ACTIVE command (row address A[11:0]) andREAD or WRITE command (column address A[9:0] and A11 for x4; A[9:0] for x8; A[8:0] for x16;with A10 defining auto precharge) to select one location out (See Datasheet)", 36 NC "These should be left unconnected. For x4 and x8 parts, G1 is a no connect; it is A12 for 256Mb and 512Mb devices", 37 CKE (in) "CKE activates (HIGH) and deactivates (LOW) the CLK signal. Deactivating theclock provides precharge power-down and SELF REFRESH operation (all banks idle), activepower-down (row active in any bank), or CLOCK SUSPEND (See Datasheet)", 38 CLK (in) "CLK is driven by the system clock. All SDRAM input signals are sampled on the positive edge of CLK. CLK also increments the internal burst counter and controls the output registers.", 39 DQMH (in) "DQML corresponds to DQ[7:0] and DQMH corresponds to DQ[15:8]. DQML and DQMH are considered same-state when referenced as DQM.", 40 NC "These should be left unconnected. For x4 and x8 parts, G1 is a no connect; it is A12 for 256Mb and 512Mb devices.", 42 DQ8 (io) "Data bus for x16 (pins 4, 7, 10, 13, 42, 45, 48, and 51 are NC for x8; andpins 2, 4, 7, 8, 10, 13, 42, 45, 47, 48, 51, and 53 are NC for x4)", 44 DQ9 (io) "Data bus for x16 (pins 4, 7, 10, 13, 42, 45, 48, and 51 are NC for x8; andpins 2, 4, 7, 8, 10, 13, 42, 45, 47, 48, 51, and 53 are NC for x4)", 45 DQ10 (io) "Data bus for x16 (pins 4, 7, 10, 13, 42, 45, 48, and 51 are NC for x8; andpins 2, 4, 7, 8, 10, 13, 42, 45, 47, 48, 51, and 53 are NC for x4)", 47 DQ11 (io) "Data bus for x16 (pins 4, 7, 10, 13, 42, 45, 48, and 51 are NC for x8; andpins 2, 4, 7, 8, 10, 13, 42, 45, 47, 48, 51, and 53 are NC for x4)", 48 DQ12 (io) "Data bus for x16 (pins 4, 7, 10, 13, 42, 45, 48, and 51 are NC for x8; andpins 2, 4, 7, 8, 10, 13, 42, 45, 47, 48, 51, and 53 are NC for x4)", 50 DQ13 (io) "Data bus for x16 (pins 4, 7, 10, 13, 42, 45, 48, and 51 are NC for x8; andpins 2, 4, 7, 8, 10, 13, 42, 45, 47, 48, 51, and 53 are NC for x4)", 51 DQ14 (io) "Data bus for x16 (pins 4, 7, 10, 13, 42, 45, 48, and 51 are NC for x8; andpins 2, 4, 7, 8, 10, 13, 42, 45, 47, 48, 51, and 53 are NC for x4)", 53 DQ15 (io) "Data bus for x16 (pins 4, 7, 10, 13, 42, 45, 48, and 51 are NC for x8; andpins 2, 4, 7, 8, 10, 13, 42, 45, 47, 48, 51, and 53 are NC for x4)"
part B pins: 1 VDD (power) "3.3V +/-0.3V", 3 VDDQ (power) "Isolated DQ power to the die for improved noise immunity", 6 VSSQ (power) "Isolated DQ ground to the die for improved noise immunity", 9 VDDQ (power) "Isolated DQ power to the die for improved noise immunity", 12 VSSQ (power) "Isolated DQ ground to the die for improved noise immunity", 14 VDD (power) "3.3V +/-0.3V", 27 VDD (power) "3.3V +/-0.3V.", 28 VSS (power) "Ground.", 41 VSS (power) "Ground.", 43 VDDQ (power) "Isolated DQ power to the die for improved noise immunity", 46 VSSQ (power) "Isolated DQ ground to the die for improved noise immunity", 49 VDDQ (power) "Isolated DQ power to the die for improved noise immunity", 52 VSSQ (power) "Isolated DQ ground to the die for improved noise immunity", 54 VSS (power) "Ground."

## MT48LC8M16A2P-75 IT
designator U?
128Mb PC133 SDR SDRAM, 8Mb x 16, 7.5ns, 3.3V, -40 to 85 degC, 54-Pin TSOP, Pb-Free; Manufacturer: Micron; PartNumber: MT48LC8M16A2P-75 IT; CL: CL = 3; Clock Rate: 133 MHz; Op. Temp.: -40C to +85C; DatasheetVersion: Rev.Q; PackageVersion: Rev.Q; PackageReference: MICT-P-54; PackageDescription: 54-Pin Thin Small Outline Package, 10.16 x 22.22 mm, Pitch 0.8 mm; Cycle Time: 7.5ns; Data Rate: PC133; Density: 128Mb; Depth: 8Mb; Package: TSOP; Pin Count: 54-pin; RoHS: Yes; Voltage: 3.3V; Width: x16; Mounting Technology: Surface Mount; ComponentLink1Description: Manufacturer URL; ComponentLink1URL: http://www.micron.com/; ComponentLink2Description: Datasheet; ComponentLink2URL: http://www.micron.com/~/media/Documents/Products/Data%20Sheet/DRAM/128mb_x4x8x16_sdram.pdf; ComponentLink3Description: Package Specification; ComponentLink3URL: http://www.micron.com/~/media/Documents/Products/Data%20Sheet/DRAM/128mb_x4x8x16_sdram.pdf
footprint MICT-P-54_N (SOP, 54-Leads, Body 22.22x10.16mm, Pitch 0.8mm, IPC Medium Density)
part A pins: 2 DQ0 (io) "Data input/output: Data bus for x16 (pins 4, 7, 10, 13, 15, 42, 45, 48, and 51 are NC for x8; and pins 2, 4, 7, 8, 10, 13, 15, 42, 45, 47, 48, 51, and 53 are NC for x4).", 4 DQ1 (io) "Data input/output: Data bus for x16 (pins 4, 7, 10, 13, 15, 42, 45, 48, and 51 are NC for x8; and pins 2, 4, 7, 8, 10, 13, 15, 42, 45, 47, 48, 51, and 53 are NC for x4).", 5 DQ2 (io) "Data input/output: Data bus for x16 (pins 4, 7, 10, 13, 15, 42, 45, 48, and 51 are NC for x8; and pins 2, 4, 7, 8, 10, 13, 15, 42, 45, 47, 48, 51, and 53 are NC for x4).", 7 DQ3 (io) "Data input/output: Data bus for x16 (pins 4, 7, 10, 13, 15, 42, 45, 48, and 51 are NC for x8; and pins 2, 4, 7, 8, 10, 13, 15, 42, 45, 47, 48, 51, and 53 are NC for x4).", 8 DQ4 (io) "Data input/output: Data bus for x16 (pins 4, 7, 10, 13, 15, 42, 45, 48, and 51 are NC for x8; and pins 2, 4, 7, 8, 10, 13, 15, 42, 45, 47, 48, 51, and 53 are NC for x4).", 10 DQ5 (io) "Data input/output: Data bus for x16 (pins 4, 7, 10, 13, 15, 42, 45, 48, and 51 are NC for x8; and pins 2, 4, 7, 8, 10, 13, 15, 42, 45, 47, 48, 51, and 53 are NC for x4).", 11 DQ6 (io) "Data input/output: Data bus for x16 (pins 4, 7, 10, 13, 15, 42, 45, 48, and 51 are NC for x8; and pins 2, 4, 7, 8, 10, 13, 15, 42, 45, 47, 48, 51, and 53 are NC for x4).", 13 DQ7 (io) "Data input/output: Data bus for x16 (pins 4, 7, 10, 13, 15, 42, 45, 48, and 51 are NC for x8; and pins 2, 4, 7, 8, 10, 13, 15, 42, 45, 47, 48, 51, and 53 are NC for x4).", 15 DQML (in) "Input/output mask: DQM is an input mask signal for write accesses and an output enable signal for read accesses. Input data is masked when DQM is sampled HIGH during a WRITE cycle.The output buffers are placed in a High-Z (See Datasheet)", 16 WE# (in) "Command inputs: RAS#, CAS#, and WE# (along with CS#) define the command being entered.", 17 CAS# (in) "Command inputs: RAS#, CAS#, and WE# (along with CS#) define the command being entered.", 18 RAS# (in) "Command inputs: RAS#, CAS#, and WE# (along with CS#) define the command being entered.", 19 CS# (in) "Chip select: CS# enables (registered LOW) and disables (registered HIGH) the command decoder. All commands are masked when CS# is registered HIGH, but READ/WRITE bursts already inprogress will continue, and DQM operation (See Datasheet)", 20 BA0 (in) "Bank address input(s): BA[1:0] define to which bank the ACTIVE, READ, WRITE, or PRECHARGEcommand is being applied.", 21 BA1 (in) "Bank address input(s): BA[1:0] define to which bank the ACTIVE, READ, WRITE, or PRECHARGEcommand is being applied.", 22 A10 (in) "Address inputs: A[12:0] are sampled during the ACTIVE command (row address A[12:0]) and READ or WRITE command (column address A[9:0], A11, and A12 for x4; A[9:0] and A11 for x8; A[9:0] for x16; with A10 defining auto (See Datasheet)", 23 A0 (in) "Address inputs: A[12:0] are sampled during the ACTIVE command (row address A[12:0]) and READ or WRITE command (column address A[9:0], A11, and A12 for x4; A[9:0] and A11 for x8; A[9:0] for x16; with A10 defining auto (See Datasheet)", 24 A1 (in) "Address inputs: A[12:0] are sampled during the ACTIVE command (row address A[12:0]) and READ or WRITE command (column address A[9:0], A11, and A12 for x4; A[9:0] and A11 for x8; A[9:0] for x16; with A10 defining auto (See Datasheet)", 25 A2 (in) "Address inputs: A[12:0] are sampled during the ACTIVE command (row address A[12:0]) and READ or WRITE command (column address A[9:0], A11, and A12 for x4; A[9:0] and A11 for x8; A[9:0] for x16; with A10 defining auto (See Datasheet)", 26 A3 (in) "Address inputs: A[12:0] are sampled during the ACTIVE command (row address A[12:0]) and READ or WRITE command (column address A[9:0], A11, and A12 for x4; A[9:0] and A11 for x8; A[9:0] for x16; with A10 defining auto (See Datasheet)", 29 A4 (in) "Address inputs: A[12:0] are sampled during the ACTIVE command (row address A[12:0]) and READ or WRITE command (column address A[9:0], A11, and A12 for x4; A[9:0] and A11 for x8; A[9:0] for x16; with A10 defining auto (See Datasheet)", 30 A5 (in) "Address inputs: A[12:0] are sampled during the ACTIVE command (row address A[12:0]) and READ or WRITE command (column address A[9:0], A11, and A12 for x4; A[9:0] and A11 for x8; A[9:0] for x16; with A10 defining auto (See Datasheet)", 31 A6 (in) "Address inputs: A[12:0] are sampled during the ACTIVE command (row address A[12:0]) and READ or WRITE command (column address A[9:0], A11, and A12 for x4; A[9:0] and A11 for x8; A[9:0] for x16; with A10 defining auto (See Datasheet)", 32 A7 (in) "Address inputs: A[12:0] are sampled during the ACTIVE command (row address A[12:0]) and READ or WRITE command (column address A[9:0], A11, and A12 for x4; A[9:0] and A11 for x8; A[9:0] for x16; with A10 defining auto (See Datasheet)", 33 A8 (in) "Address inputs: A[12:0] are sampled during the ACTIVE command (row address A[12:0]) and READ or WRITE command (column address A[9:0], A11, and A12 for x4; A[9:0] and A11 for x8; A[9:0] for x16; with A10 defining auto (See Datasheet)", 34 A9 (in) "Address inputs: A[12:0] are sampled during the ACTIVE command (row address A[12:0]) and READ or WRITE command (column address A[9:0], A11, and A12 for x4; A[9:0] and A11 for x8; A[9:0] for x16; with A10 defining auto (See Datasheet)", 35 A11 (in) "Address inputs: A[12:0] are sampled during the ACTIVE command (row address A[12:0]) and READ or WRITE command (column address A[9:0], A11, and A12 for x4; A[9:0] and A11 for x8; A[9:0] for x16; with A10 defining auto (See Datasheet)", 36 A12 (in) "Address inputs: A[12:0] are sampled during the ACTIVE command (row address A[12:0]) and READ or WRITE command (column address A[9:0], A11, and A12 for x4; A[9:0] and A11 for x8; A[9:0] for x16; with A10 defining auto (See Datasheet)", 37 CKE (in) "Clock enable: CKE activates (HIGH) and deactivates (LOW) the CLK signal. Deactivating theclock provides precharge power-down and SELF REFRESH operation (all banks idle), activepower-down (row active in any bank), or CLOCK (See Datasheet)", 38 CLK (in) "Clock: CLK is driven by the system clock. All SDRAM input signals are sampled on the positiveedge of CLK. CLK also increments the internal burst counter and controls the output registers.", 39 DQMH (in) "Input/output mask: DQM is an input mask signal for write accesses and an output enable signal for read accesses. Input data is masked when DQM is sampled HIGH during a WRITE cycle.The output buffers are placed in a High-Z (See Datasheet)", 40 NC "These should be left unconnected.", 42 DQ8 (io) "Data input/output: Data bus for x16 (pins 4, 7, 10, 13, 15, 42, 45, 48, and 51 are NC for x8; and pins 2, 4, 7, 8, 10, 13, 15, 42, 45, 47, 48, 51, and 53 are NC for x4).", 44 DQ9 (io) "Data input/output: Data bus for x16 (pins 4, 7, 10, 13, 15, 42, 45, 48, and 51 are NC for x8; and pins 2, 4, 7, 8, 10, 13, 15, 42, 45, 47, 48, 51, and 53 are NC for x4).", 45 DQ10 (io) "Data input/output: Data bus for x16 (pins 4, 7, 10, 13, 15, 42, 45, 48, and 51 are NC for x8; and pins 2, 4, 7, 8, 10, 13, 15, 42, 45, 47, 48, 51, and 53 are NC for x4).", 47 DQ11 (io) "Data input/output: Data bus for x16 (pins 4, 7, 10, 13, 15, 42, 45, 48, and 51 are NC for x8; and pins 2, 4, 7, 8, 10, 13, 15, 42, 45, 47, 48, 51, and 53 are NC for x4).", 48 DQ12 (io) "Data input/output: Data bus for x16 (pins 4, 7, 10, 13, 15, 42, 45, 48, and 51 are NC for x8; and pins 2, 4, 7, 8, 10, 13, 15, 42, 45, 47, 48, 51, and 53 are NC for x4).", 50 DQ13 (io) "Data input/output: Data bus for x16 (pins 4, 7, 10, 13, 15, 42, 45, 48, and 51 are NC for x8; and pins 2, 4, 7, 8, 10, 13, 15, 42, 45, 47, 48, 51, and 53 are NC for x4).", 51 DQ14 (io) "Data input/output: Data bus for x16 (pins 4, 7, 10, 13, 15, 42, 45, 48, and 51 are NC for x8; and pins 2, 4, 7, 8, 10, 13, 15, 42, 45, 47, 48, 51, and 53 are NC for x4).", 53 DQ15 (io) "Data input/output: Data bus for x16 (pins 4, 7, 10, 13, 15, 42, 45, 48, and 51 are NC for x8; and pins 2, 4, 7, 8, 10, 13, 15, 42, 45, 47, 48, 51, and 53 are NC for x4)."
part B pins: 1 VDD (power) "Power supply: +3.3V +/-0.3V.", 3 VDDQ (power) "DQ power: DQ power to the die for improved noise immunity.", 6 VSSQ (power) "DQ ground: DQ ground to the die for improved noise immunity.", 9 VDDQ (power) "DQ power: DQ power to the die for improved noise immunity.", 12 VSSQ (power) "DQ ground: DQ ground to the die for improved noise immunity.", 14 VDD (power) "Power supply: +3.3V +/-0.3V.", 27 VDD (power) "Power supply: +3.3V +/-0.3V.", 28 VSS (power) "Ground.", 41 VSS (power) "Ground.", 43 VDDQ (power) "DQ power: DQ power to the die for improved noise immunity.", 46 VSSQ (power) "DQ ground: DQ ground to the die for improved noise immunity.", 49 VDDQ (power) "DQ power: DQ power to the die for improved noise immunity.", 52 VSSQ (power) "DQ ground: DQ ground to the die for improved noise immunity.", 54 VSS (power) "Ground."